# EAGLE library part PINHD-2X20 (library tof_v5)
PIN HEADER
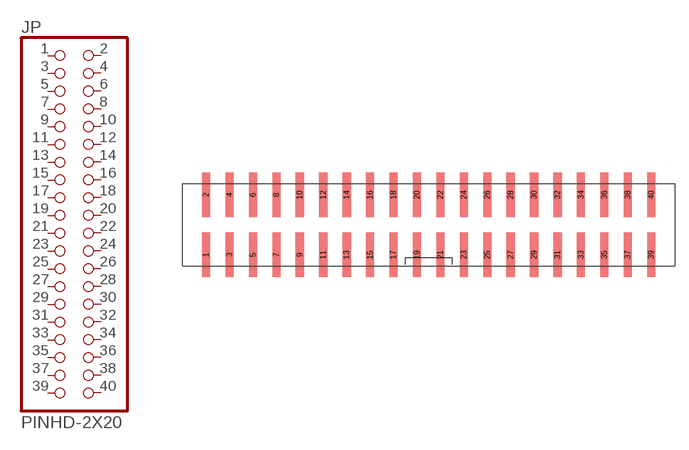
[diagram p3: symbol with the pads of SMD-40; footprint SMD-40]

Designator prefix JP

## PINHD-2X20  [SMD-40]
1  1  pas
2  2  pas
3  3  pas
4  4  pas
5  5  pas
6  6  pas
7  7  pas
8  8  pas
9  9  pas
10  10  pas
11  11  pas
12  12  pas
13  13  pas
14  14  pas
15  15  pas
16  16  pas
17  17  pas
18  18  pas
19  19  pas
20  20  pas
21  21  pas
22  22  pas
23  23  pas
24  24  pas
25  25  pas
26  26  pas
27  27  pas
28  28  pas
29  29  pas
30  30  pas
31  31  pas
32  32  pas
33  33  pas
34  34  pas
35  35  pas
36  36  pas
37  37  pas
38  38  pas
39  39  pas
40  40  pas

## Footprint SMD-40 (pad centres in mm)
smd 0.889 x 4.801: 1 -24.13,-3.251; 2 -24.13,3.251; 3 -21.59,-3.251; 4 -21.59,3.251; 5 -19.05,-3.251; 6 -19.05,3.251; 7 -16.51,-3.251; 8 -16.51,3.251; 9 -13.97,-3.251; 10 -13.97,3.251; 11 -11.43,-3.251; 12 -11.43,3.251; 13 -8.89,-3.251; 14 -8.89,3.251; 15 -6.35,-3.251; 16 -6.35,3.251; 17 -3.81,-3.251; 18 -3.81,3.251; 19 -1.27,-3.251; 20 -1.27,3.251; 21 1.27,-3.251; 22 1.27,3.251; 23 3.81,-3.251; 24 3.81,3.251; 25 6.35,-3.251; 26 6.35,3.251; 27 8.89,-3.251; 28 8.89,3.251; 29 11.43,-3.251; 30 11.43,3.251; 31 13.97,-3.251; 32 13.97,3.251; 33 16.51,-3.251; 34 16.51,3.251; 35 19.05,-3.251; 36 19.05,3.251; 37 21.59,-3.251; 38 21.59,3.251; 39 24.13,-3.251; 40 24.13,3.251